# EAGLE library part PINHD-1X20 (library pinhead)
PIN HEADER
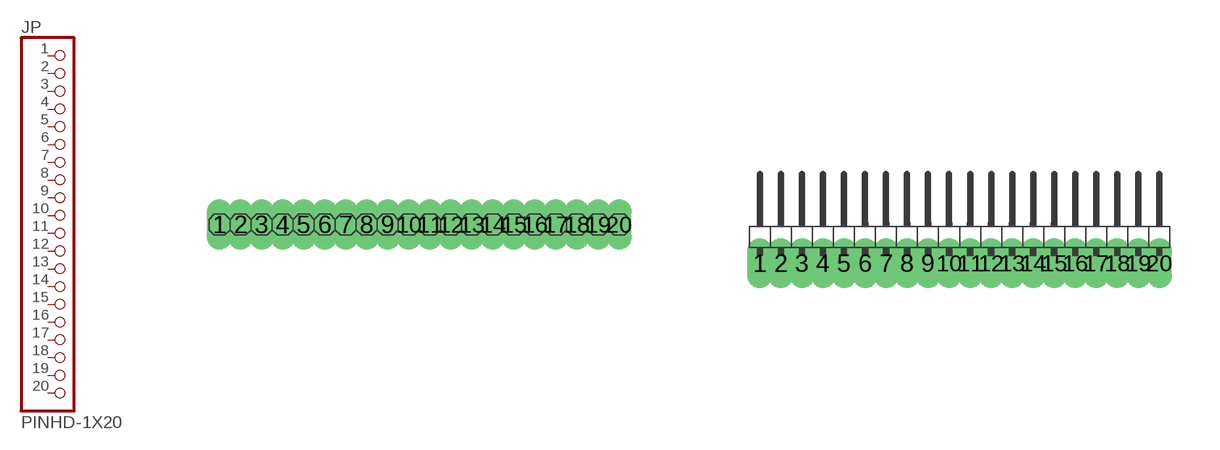
[diagram p14: symbol with the pads of 1X20; footprints 1X20, 1X20/90]

Designator prefix JP

## PINHD-1X20  [1X20]
1  1  pas
2  2  pas
3  3  pas
4  4  pas
5  5  pas
6  6  pas
7  7  pas
8  8  pas
9  9  pas
10  10  pas
11  11  pas
12  12  pas
13  13  pas
14  14  pas
15  15  pas
16  16  pas
17  17  pas
18  18  pas
19  19  pas
20  20  pas

## PINHD-1X20/90  [1X20/90]
Pads as for 1X20

## Footprint 1X20 (pad centres in mm)
PIN HEADER
drill 0.254 long: 1 -6.032,0; 2 -5.397,0; 3 -4.763,0; 4 -4.128,0; 5 -3.493,0; 6 -2.857,0; 7 -2.223,0; 8 -1.587,0; 9 -0.953,0; 10 -0.318,0; 11 0.318,0; 12 0.953,0; 13 1.587,0; 14 2.223,0; 15 2.857,0; 16 3.493,0; 17 4.128,0; 18 4.763,0; 19 5.397,0; 20 6.032,0

## Footprint 1X20/90 (pad centres in mm)
PIN HEADER
drill 0.254 long: 1 -6.032,-0.953; 2 -5.397,-0.953; 3 -4.763,-0.953; 4 -4.128,-0.953; 5 -3.493,-0.953; 6 -2.857,-0.953; 7 -2.223,-0.953; 8 -1.587,-0.953; 9 -0.953,-0.953; 10 -0.318,-0.953; 11 0.318,-0.953; 12 0.953,-0.953; 13 1.587,-0.953; 14 2.223,-0.953; 15 2.857,-0.953; 16 3.493,-0.953; 17 4.128,-0.953; 18 4.763,-0.953; 19 5.397,-0.953; 20 6.032,-0.953